# Altium footprint library alexsb.PCBLIB: 444 footprints (part 1 of 28)
Each footprint in its own frame and in the unit in brackets; x right, y up, seen from the top. Pads: shape width x height; smd on the part's side, far side on the other; paste and mask are expansions set on the pad; w line width, h text height; cw(c..) or ccw(c..) is an arc to the next point about the centre after c.
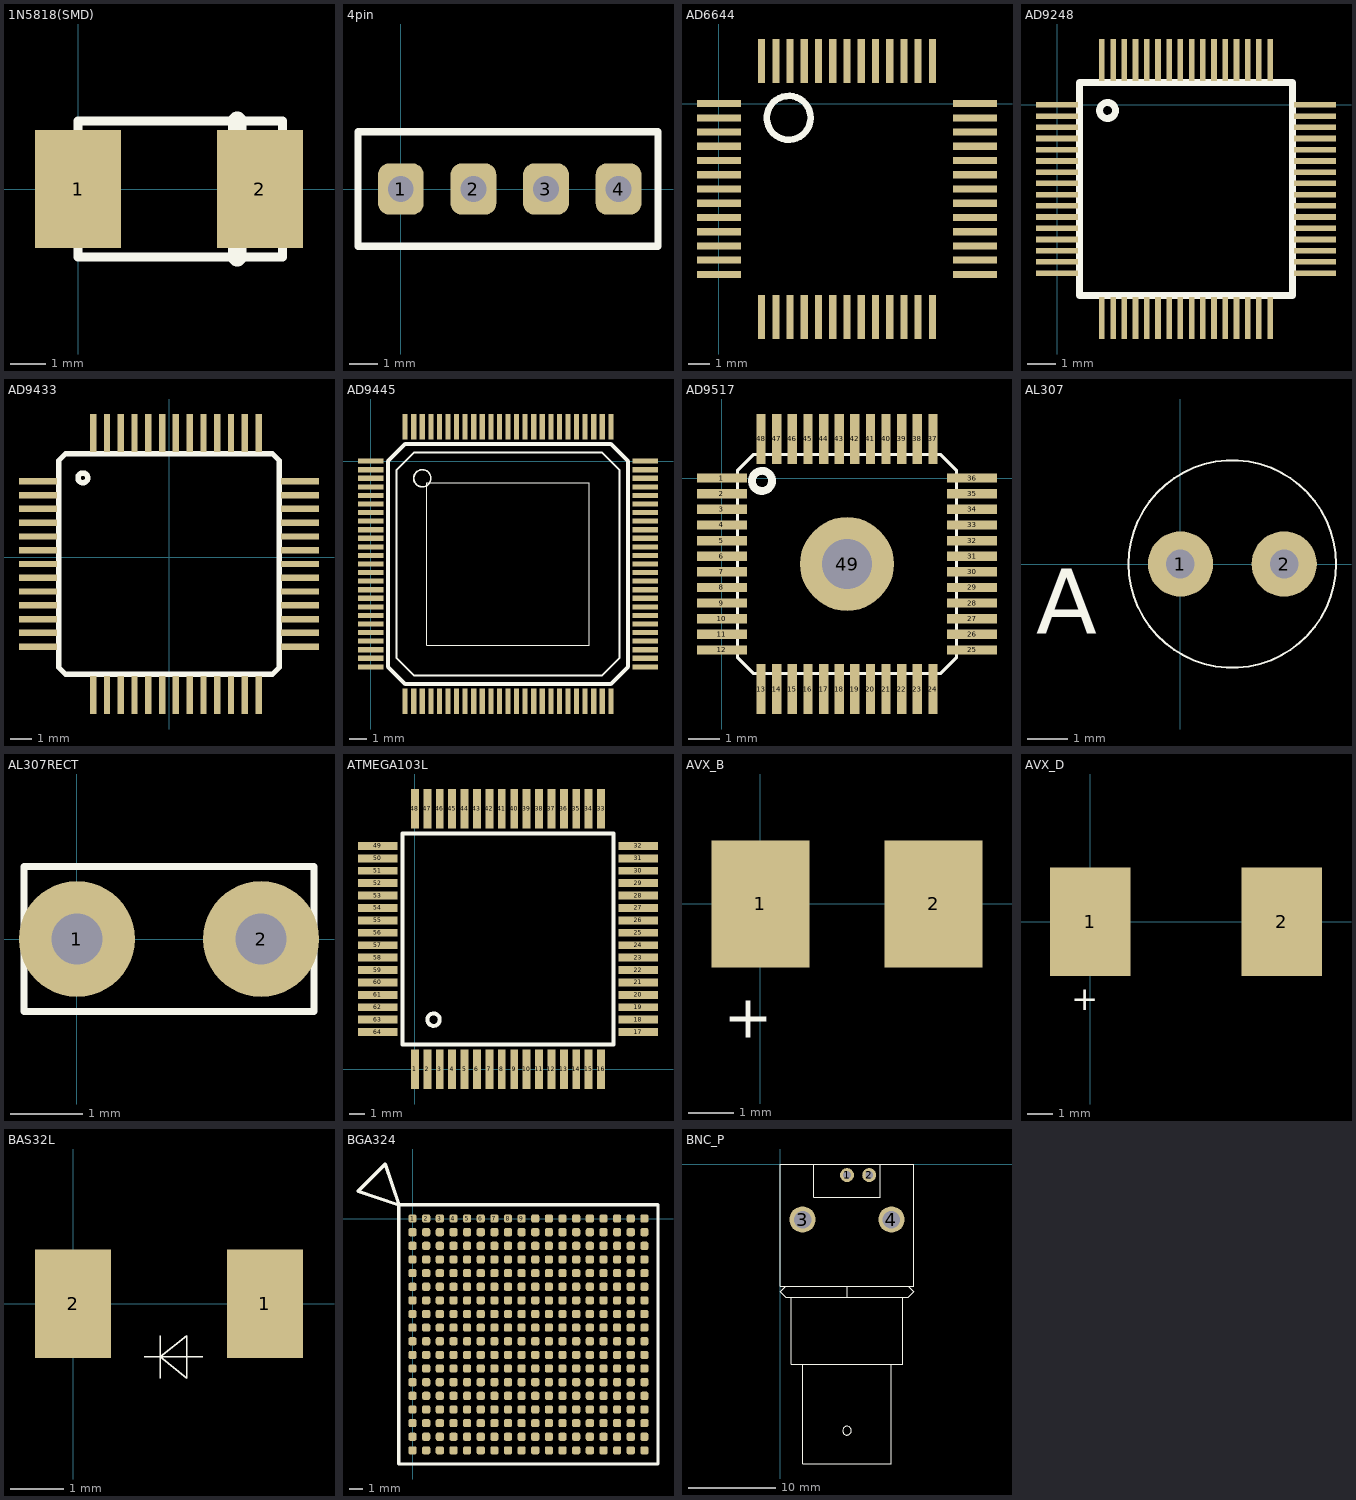
[diagram p0: the footprints below, top view; thin cyan lines are the x and y axes]

## 1N5818(SMD) [mm]
pads (2):
  rect 2.4x3.3 smd: 1(0,0) 2(5.08,0)
Top Overlay:
  lines w0.25: 0,-1.905 0,1.905 5.715,1.905 5.715,-1.905 0,-1.905
  lines w0.508: 4.445,-1.905 4.445,1.905

## 4pin [mm]
pads (4):
  rrect50% 1.6x1.8 hole 0.9: 1(0,0) 2(2.54,0) 3(5.08,0) 4(7.62,0)
Top Overlay:
  lines w0.254: -1.5,-2 -1.5,2 9,2 9,-2 -1.5,-2

## AD6644 [mm]
pads (52):
  rect 2x0.325 smd: 1(0,0) 2(0,-0.65) 3(0,-1.3) 4(0,-1.95) 5(0,-2.6) 6(0,-3.25) 7(0,-3.9) 8(0,-4.55) 9(0,-5.2) 10(0,-5.85) 11(0,-6.5) 12(0,-7.15) 13(0,-7.8) 27(11.7,-7.8) 28(11.7,-7.15) 29(11.7,-6.5) 30(11.7,-5.85) 31(11.7,-5.2) 32(11.7,-4.55) 33(11.7,-3.9) 34(11.7,-3.25) 35(11.7,-2.6) 36(11.7,-1.95) 37(11.7,-1.3) 38(11.7,-0.65) 39(11.7,0)
  rect 0.325x2 smd: 14(1.95,-9.75) 15(2.6,-9.75) 16(3.25,-9.75) 17(3.9,-9.75) 18(4.55,-9.75) 19(5.2,-9.75) 20(5.85,-9.75) 21(6.5,-9.75) 22(7.15,-9.75) 23(7.8,-9.75) 24(8.45,-9.75) 25(9.1,-9.75) 26(9.75,-9.75) 40(9.75,1.95) 41(9.1,1.95) 42(8.45,1.95) 43(7.8,1.95) 44(7.15,1.95) 45(6.5,1.95) 46(5.85,1.95) 47(5.2,1.95) 48(4.55,1.95) 49(3.9,1.95) 50(3.25,1.95) 51(2.6,1.95) 52(1.95,1.95)
Top Overlay:
  circle w0.3: c3.19,-0.65 r1
Bottom Overlay:
  lines w0.1: 0,-9.1 0,1.3 0.65,1.95 10.4,1.95 11.05,1.3 11.05,-9.1 10.4,-9.75 1.3,-9.75 0.65,-9.75 0,-9.1

## AD9248 [mm]
pads (64):
  rect 1.5x0.2 smd: 1(0,0) 2(0,-0.4) 3(0,-0.8) 4(0,-1.2) 5(0,-1.6) 6(0,-2) 7(0,-2.4) 8(0,-2.8) 9(0,-3.2) 10(0,-3.6) 11(0,-4) 12(0,-4.4) 13(0,-4.8) 14(0,-5.2) 15(0,-5.6) 16(0,-6) 33(9.2,-6) 34(9.2,-5.6) 35(9.2,-5.2) 36(9.2,-4.8) 37(9.2,-4.4) 38(9.2,-4) 39(9.2,-3.6) 40(9.2,-3.2) 41(9.2,-2.8) 42(9.2,-2.4) 43(9.2,-2) 44(9.2,-1.6) 45(9.2,-1.2) 46(9.2,-0.8) 47(9.2,-0.4) 48(9.2,0)
  rect 0.2x1.5 smd: 17(1.6,-7.6) 18(2,-7.6) 19(2.4,-7.6) 20(2.8,-7.6) 21(3.2,-7.6) 22(3.6,-7.6) 23(4,-7.6) 24(4.4,-7.6) 25(4.8,-7.6) 26(5.2,-7.6) 27(5.6,-7.6) 28(6,-7.6) 29(6.4,-7.6) 30(6.8,-7.6) 31(7.2,-7.6) 32(7.6,-7.6) 49(7.6,1.6) 50(7.2,1.6) 51(6.8,1.6) 52(6.4,1.6) 53(6,1.6) 54(5.6,1.6) 55(5.2,1.6) 56(4.8,1.6) 57(4.4,1.6) 58(4,1.6) 59(3.6,1.6) 60(3.2,1.6) 61(2.8,1.6) 62(2.4,1.6) 63(2,1.6) 64(1.6,1.6)
Top Overlay:
  circle w0.25: c1.8,-0.2 r0.283
  lines w0.25: 0.8,-6.8 8.4,-6.8 8.4,0.8 0.8,0.8 0.8,-6.8

## AD9433 [mm]
pads (52):
  rect 1.8x0.3 smd: 1(-6.175,3.575) 2(-6.175,2.925) 3(-6.175,2.275) 4(-6.175,1.625) 5(-6.175,0.975) 6(-6.175,0.325) 7(-6.175,-0.325) 8(-6.175,-0.975) 9(-6.175,-1.625) 10(-6.175,-2.275) 11(-6.175,-2.925) 12(-6.175,-3.575) 13(-6.175,-4.225) 27(6.175,-4.225) 28(6.175,-3.575) 29(6.175,-2.925) 30(6.175,-2.275) 31(6.175,-1.625) 32(6.175,-0.975) 33(6.175,-0.325) 34(6.175,0.325) 35(6.175,0.975) 36(6.175,1.625) 37(6.175,2.275) 38(6.175,2.925) 39(6.175,3.575)
  rect 0.3x1.8 smd: 14(-3.575,-6.5) 15(-2.925,-6.5) 16(-2.275,-6.5) 17(-1.625,-6.5) 18(-0.975,-6.5) 19(-0.325,-6.5) 20(0.325,-6.5) 21(0.975,-6.5) 22(1.625,-6.5) 23(2.275,-6.5) 24(2.925,-6.5) 25(3.575,-6.5) 26(4.225,-6.5) 40(4.225,5.85) 41(3.575,5.85) 42(2.925,5.85) 43(2.275,5.85) 44(1.625,5.85) 45(0.975,5.85) 46(0.325,5.85) 47(-0.325,5.85) 48(-0.975,5.85) 49(-1.625,5.85) 50(-2.275,5.85) 51(-2.925,5.85) 52(-3.575,5.85)
Top Overlay:
  circle w0.254: c-4.062,3.738 r0.23
  lines w0.254: -5.2,-5.2 -5.2,4.55 -4.875,4.875 4.875,4.875 5.2,4.55 5.2,-5.2 4.875,-5.525 -4.875,-5.525 -5.2,-5.2

## AD9445 [mm]
pads (100):
  rect 1.5x0.3 smd: 1(0,0) 2(0,-0.5) 3(0,-1) 4(0,-1.5) 5(0,-2) 6(0,-2.5) 7(0,-3) 8(0,-3.5) 9(0,-4) 10(0,-4.5) 11(0,-5) 12(0,-5.5) 13(0,-6) 14(0,-6.5) 15(0,-7) 16(0,-7.5) 17(0,-8) 18(0,-8.5) 19(0,-9) 20(0,-9.5) 21(0,-10) 22(0,-10.5) 23(0,-11) 24(0,-11.5) 25(0,-12) 51(16,-12) 52(16,-11.5) 53(16,-11) 54(16,-10.5) 55(16,-10) 56(16,-9.5) 57(16,-9) 58(16,-8.5) 59(16,-8) 60(16,-7.5) 61(16,-7) 62(16,-6.5) 63(16,-6) 64(16,-5.5) 65(16,-5) 66(16,-4.5) 67(16,-4) 68(16,-3.5) 69(16,-3) 70(16,-2.5) 71(16,-2) 72(16,-1.5) 73(16,-1) 74(16,-0.5) 75(16,0)
  rect 0.3x1.5 smd: 26(2,-14) 27(2.5,-14) 28(3,-14) 29(3.5,-14) 30(4,-14) 31(4.5,-14) 32(5,-14) 33(5.5,-14) 34(6,-14) 35(6.5,-14) 36(7,-14) 37(7.5,-14) 38(8,-14) 39(8.5,-14) 40(9,-14) 41(9.5,-14) 42(10,-14) 43(10.5,-14) 44(11,-14) 45(11.5,-14) 46(12,-14) 47(12.5,-14) 48(13,-14) 49(13.5,-14) 50(14,-14) 76(14,2) 77(13.5,2) 78(13,2) 79(12.5,2) 80(12,2) 81(11.5,2) 82(11,2) 83(10.5,2) 84(10,2) 85(9.5,2) 86(9,2) 87(8.5,2) 88(8,2) 89(7.5,2) 90(7,2) 91(6.5,2) 92(6,2) 93(5.5,2) 94(5,2) 95(4.5,2) 96(4,2) 97(3.5,2) 98(3,2) 99(2.5,2) 100(2,2)
Top Overlay:
  circle w0.1: c3,-1 r0.5
  lines w0.01: 3.25,-10.75 12.75,-10.75 12.75,-1.25 3.25,-1.25 3.25,-10.75
  lines w0.1: 1.5,-11.5 1.5,-0.5 2.5,0.5 13.5,0.5 14.5,-0.5 14.5,-11.5 13.5,-12.5 2.5,-12.5 1.5,-11.5
  lines w0.25: 1,-12 2,-13 14,-13 15,-12 15,0 14,1 2,1 1,0 1,-12

## AD9517 [mm]
pads (49):
  rect 1.6x0.3 smd: 1(0,0) 2(0,-0.5) 3(0,-1) 4(0,-1.5) 5(0,-2) 6(0,-2.5) 7(0,-3) 8(0,-3.5) 9(0,-4) 10(0,-4.5) 11(0,-5) 12(0,-5.5) 25(8,-5.5) 26(8,-5) 27(8,-4.5) 28(8,-4) 29(8,-3.5) 30(8,-3) 31(8,-2.5) 32(8,-2) 33(8,-1.5) 34(8,-1) 35(8,-0.5) 36(8,0)
  rect 0.3x1.6 smd: 13(1.25,-6.75) 14(1.75,-6.75) 15(2.25,-6.75) 16(2.75,-6.75) 17(3.25,-6.75) 18(3.75,-6.75) 19(4.25,-6.75) 20(4.75,-6.75) 21(5.25,-6.75) 22(5.75,-6.75) 23(6.25,-6.75) 24(6.75,-6.75) 37(6.75,1.25) 38(6.25,1.25) 39(5.75,1.25) 40(5.25,1.25) 41(4.75,1.25) 42(4.25,1.25) 43(3.75,1.25) 44(3.25,1.25) 45(2.75,1.25) 46(2.25,1.25) 47(1.75,1.25) 48(1.25,1.25)
  round 3 hole 1.6: 49(4,-2.75)
Top Overlay:
  circle w0.25: c1.28,-0.09 r0.322
  lines w0.1: 0.5,-5.75 0.5,0.25 1,0.75 7,0.75 7.5,0.25 7.5,-5.75 7,-6.25 1,-6.25 0.5,-5.75

## AL307 [mm]
pads (2):
  round 1.6 hole 0.7: 1(0,0) 2(2.54,0)
Top Overlay:
  circle w0.05: c1.27,0 r2.54
  text "A" at -3.538,-1.713 h1.59

## AL307RECT [mm]
pads (2):
  round 1.6 hole 0.7: 1(0,0) 2(2.54,0)
Top Overlay:
  lines w0.1: -0.73,-1 -0.73,1 3.27,1 3.27,-1 -0.73,-1

## ATMEGA103L [mm]
pads (64):
  rect 0.508x2.54 smd: 1(0,0) 2(0.8,0) 3(1.6,0) 4(2.4,0) 5(3.2,0) 6(4,0) 7(4.8,0) 8(5.6,0) 9(6.4,0) 10(7.2,0) 11(8,0) 12(8.8,0) 13(9.6,0) 14(10.4,0) 15(11.2,0) 16(12,0) 33(12,16.8) 34(11.2,16.8) 35(10.4,16.8) 36(9.6,16.8) 37(8.8,16.8) 38(8,16.8) 39(7.2,16.8) 40(6.4,16.8) 41(5.6,16.8) 42(4.8,16.8) 43(4,16.8) 44(3.2,16.8) 45(2.4,16.8) 46(1.6,16.8) 47(0.8,16.8) 48(0,16.8)
  rect 2.54x0.508 smd: 17(14.4,2.4) 18(14.4,3.2) 19(14.4,4) 20(14.4,4.8) 21(14.4,5.6) 22(14.4,6.4) 23(14.4,7.2) 24(14.4,8) 25(14.4,8.8) 26(14.4,9.6) 27(14.4,10.4) 28(14.4,11.2) 29(14.4,12) 30(14.4,12.8) 31(14.4,13.6) 32(14.4,14.4) 49(-2.4,14.4) 50(-2.4,13.6) 51(-2.4,12.8) 52(-2.4,12) 53(-2.4,11.2) 54(-2.4,10.4) 55(-2.4,9.6) 56(-2.4,8.8) 57(-2.4,8) 58(-2.4,7.2) 59(-2.4,6.4) 60(-2.4,5.6) 61(-2.4,4.8) 62(-2.4,4) 63(-2.4,3.2) 64(-2.4,2.4)
Top Overlay:
  circle w0.25: c1.2,3.2 r0.4
  lines w0.25: -0.8,1.6 12.8,1.6 12.8,15.2 -0.8,15.2 -0.8,1.6

## AVX_B [mil]
pads (2):
  rect 85x110 smd: 1(0,0) 2(150,0)
Top Overlay:
  text "+" at -31.62,-115.85 h36.91

## AVX_D [mm]
pads (2):
  rect 3.2x4.3 smd: 1(0,0) 2(7.62,0)
Top Overlay:
  text "+" at -0.753,-3.528 h0.94

## BAS32L [mil]
pads (2):
  rect 56x80 smd: 1(142,0) 2(0,0)
Top Overlay:
  lines w1: 52.76,-39.37 96.06,-39.37 ; 64.57,-55.12 64.57,-23.62 ; 64.57,-39.37 84.25,-55.12 84.25,-23.62 64.57,-39.37

## BGA324 [mm]
pads (324):
  rrect50% 0.6x0.6 smd: 1(0,0) 2(1,0) 3(2,0) 4(3,0) 5(4,0) 6(5,0) 7(6,0) 8(7,0) 9(8,0) 10(9,0) 11(10,0) 12(11,0) 13(12,0) 14(13,0) 15(14,0) 16(15,0) 17(16,0) 18(17,0) 19(0,-1) 20(1,-1) 21(2,-1) 22(3,-1) 23(4,-1) 24(5,-1) 25(6,-1) 26(7,-1) 27(8,-1) 28(9,-1) 29(10,-1) 30(11,-1) 31(12,-1) 32(13,-1) 33(14,-1) 34(15,-1) 35(16,-1) 36(17,-1) 37(0,-2) 38(1,-2) 39(2,-2) 40(3,-2) 41(4,-2) 42(5,-2) 43(6,-2) 44(7,-2) 45(8,-2) 46(9,-2) 47(10,-2) 48(11,-2) 49(12,-2) 50(13,-2) 51(14,-2) 52(15,-2) 53(16,-2) 54(17,-2) 55(0,-3) 56(1,-3) 57(2,-3) 58(3,-3) 59(4,-3) 60(5,-3) 61(6,-3) 62(7,-3) 63(8,-3) 64(9,-3) 65(10,-3) 66(11,-3) 67(12,-3) 68(13,-3) 69(14,-3) 70(15,-3) 71(16,-3) 72(17,-3) 73(0,-4) 74(1,-4) 75(2,-4) 76(3,-4) 77(4,-4) 78(5,-4) 79(6,-4) 80(7,-4) 81(8,-4) 82(9,-4) 83(10,-4) 84(11,-4) 85(12,-4) 86(13,-4) 87(14,-4) 88(15,-4) 89(16,-4) 90(17,-4) 91(0,-5) 92(1,-5) 93(2,-5) 94(3,-5) 95(4,-5) 96(5,-5) 97(6,-5) 98(7,-5) 99(8,-5) 100(9,-5) 101(10,-5) 102(11,-5) 103(12,-5) 104(13,-5) 105(14,-5) 106(15,-5) 107(16,-5) 108(17,-5) 109(0,-6) 110(1,-6) 111(2,-6) 112(3,-6) 113(4,-6) 114(5,-6) 115(6,-6) 116(7,-6) 117(8,-6) 118(9,-6) 119(10,-6) 120(11,-6) 121(12,-6) 122(13,-6) 123(14,-6) 124(15,-6) 125(16,-6) 126(17,-6) 127(0,-7) 128(1,-7) 129(2,-7) 130(3,-7) 131(4,-7) 132(5,-7) 133(6,-7) 134(7,-7) 135(8,-7) 136(9,-7) 137(10,-7) 138(11,-7) 139(12,-7) 140(13,-7) 141(14,-7) 142(15,-7) 143(16,-7) 144(17,-7) 145(0,-8) 146(1,-8) 147(2,-8) 148(3,-8) 149(4,-8) 150(5,-8) 151(6,-8) 152(7,-8) 153(8,-8) 154(9,-8) 155(10,-8) 156(11,-8) 157(12,-8) 158(13,-8) 159(14,-8) 160(15,-8) 161(16,-8) 162(17,-8) 163(0,-9) 164(1,-9) 165(2,-9) 166(3,-9) 167(4,-9) 168(5,-9) 169(6,-9) 170(7,-9) 171(8,-9) 172(9,-9) 173(10,-9) 174(11,-9) 175(12,-9) 176(13,-9) 177(14,-9) 178(15,-9) 179(16,-9) 180(17,-9) 181(0,-10) 182(1,-10) 183(2,-10) 184(3,-10) 185(4,-10) 186(5,-10) 187(6,-10) 188(7,-10) 189(8,-10) 190(9,-10) 191(10,-10) 192(11,-10) 193(12,-10) 194(13,-10) 195(14,-10) 196(15,-10) 197(16,-10) 198(17,-10) 199(0,-11) 200(1,-11) 201(2,-11) 202(3,-11) 203(4,-11) 204(5,-11) 205(6,-11) 206(7,-11) 207(8,-11) 208(9,-11) 209(10,-11) 210(11,-11) 211(12,-11) 212(13,-11) 213(14,-11) 214(15,-11) 215(16,-11) 216(17,-11) 217(0,-12) 218(1,-12) 219(2,-12) 220(3,-12) 221(4,-12) 222(5,-12) 223(6,-12) 224(7,-12) 225(8,-12) 226(9,-12) 227(10,-12) 228(11,-12) 229(12,-12) 230(13,-12) 231(14,-12) 232(15,-12) 233(16,-12) 234(17,-12) 235(0,-13) 236(1,-13) 237(2,-13) 238(3,-13) 239(4,-13) 240(5,-13) 241(6,-13) 242(7,-13) 243(8,-13) 244(9,-13) 245(10,-13) 246(11,-13) 247(12,-13) 248(13,-13) 249(14,-13) 250(15,-13) 251(16,-13) 252(17,-13) 253(0,-14) 254(1,-14) 255(2,-14) 256(3,-14) 257(4,-14) 258(5,-14) 259(6,-14) 260(7,-14) 261(8,-14) 262(9,-14) 263(10,-14) 264(11,-14) 265(12,-14) 266(13,-14) 267(14,-14) 268(15,-14) 269(16,-14) 270(17,-14) 271(0,-15) 272(1,-15) 273(2,-15) 274(3,-15) 275(4,-15) 276(5,-15) 277(6,-15) 278(7,-15) 279(8,-15) 280(9,-15) 281(10,-15) 282(11,-15) 283(12,-15) 284(13,-15) 285(14,-15) 286(15,-15) 287(16,-15) 288(17,-15) 289(0,-16) 290(1,-16) 291(2,-16) 292(3,-16) 293(4,-16) 294(5,-16) 295(6,-16) 296(7,-16) 297(8,-16) 298(9,-16) 299(10,-16) 300(11,-16) 301(12,-16) 302(13,-16) 303(14,-16) 304(15,-16) 305(16,-16) 306(17,-16) 307(0,-17) 308(1,-17) 309(2,-17) 310(3,-17) 311(4,-17) 312(5,-17) 313(6,-17) 314(7,-17) 315(8,-17) 316(9,-17) 317(10,-17) 318(11,-17) 319(12,-17) 320(13,-17) 321(14,-17) 322(15,-17) 323(16,-17) 324(17,-17)
Top Overlay:
  lines w0.25: -1,1 18,1 18,-18 -1,-18 -1,1 ; -1,1 -4,2 -2,4 -1,1

## BLANK [mil]

## BNC_P [mm]
pads (4):
  round 1.6 hole 0.9: 1(7.62,-1.27) 2(10.16,-1.27)
  round 3 hole 2: 3(2.54,-6.35) 4(12.7,-6.35)
Top Overlay:
  circle w0.1: c7.62,-30.48 r0.5
  lines w0.1: 0.635,-13.97 0,-14.605 0.635,-15.24 14.605,-15.24 15.24,-14.605 14.605,-13.97 ; 1.27,-15.24 1.27,-22.86 13.97,-22.86 13.97,-15.24 ; 2.54,-22.86 2.54,-34.29 12.7,-34.29 12.7,-22.86 ; 3.81,0 3.81,-3.81 11.43,-3.81 11.43,0 ; 7.62,-15.24 7.62,-13.97 ; 0,-13.97 15.24,-13.97 15.24,0 0,0 0,-13.97